# Altium schematic symbol library 12.1 - 变压器.SchLib: 5 symbols
Pins are listed as number, name and electrical type; pins without a type are passive.

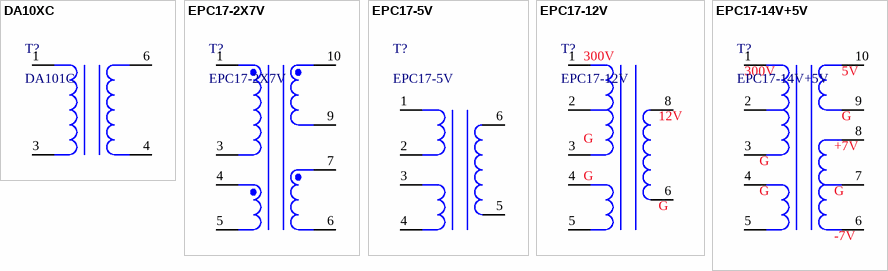
[diagram p0: symbols DA10XC to EPC17-14V+5V]

## DA10XC
designator T?, comment DA101C
数字隔离变压器; 版权归属: 源创客; ROM名称: 数字隔离变压器; 学习资源: www.ooocke.com
footprint DA10XC (9mm*9.52mm*6.35mm(长*宽*高))
footprint DA10XMC (9mm*9.52mm*6.35mm(长*宽*高))
pins: 1, 3, 4, 6

## EPC17-2X7V
designator T?
2X7V 高频变压器; 版权归属: 源创客; ROM名称: 2X7V 高频变压器; 学习资源: www.ooocke.com
footprint EPC17-W-5+5 (磁芯17mm，高10mm，脚距3mm，)
pins: 1, 3, 4, 5, 6, 7, 9, 10

## EPC17-5V
designator T?
12V 高频变压器; 版权归属: 源创客; ROM名称: 12V 高频变压器; 学习资源: www.ooocke.com
footprint EPC17-10V 5+5 (磁芯17mm，高10mm，脚距3mm，)
pins: 1, 2, 3, 4, 5, 6

## EPC17-12V
designator T?
12V 高频变压器; 版权归属: 源创客; ROM名称: 12V 高频变压器; 学习资源: www.ooocke.com
footprint EPC17-10V 5+5 (磁芯17mm，高10mm，脚距3mm，)
pins: 1, 2, 3, 4, 5, 6, 8
text: 300V; 12V; G

## EPC17-14V+5V
designator T?
14V+5V 高频变压器; 版权归属: 源创客; ROM名称: 14V+5V 高频变压器; 学习资源: www.ooocke.com
footprint EPC17-W-5+5 (磁芯17mm，高10mm，脚距3mm，)
pins: 1, 2, 3, 4, 5, 6, 7, 8, 9, 10
text: 300V; 5V; G; +7V; -7V